# Altium integrated library Inductors.IntLib: 2 symbols
Pins are listed as number, name and electrical type; pins without a type are passive.

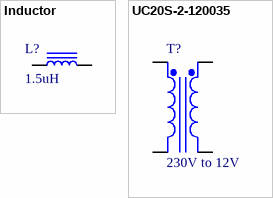
[diagram p0: symbols Inductor to UC20S-2-120035]

## Inductor
designator L?, comment 1.5uH
SMT Inductor; Value: 1.5uH
footprint CD32 (SMT inductor 3.0mm x 3.5mm x 2.1mm)
footprint BOURNS SRR1280 (Precision Wire Wound Inductor, 2-Leads, Body 12.50x12.50mm, IPC Medium Density)
pins: 1, 2

## UC20S-2-120035
designator T?, comment 230V to 12V
Transformer 220 to 12V 0.35VA; Published: 8-Jun-2000; LatestRevisionDate: 17-Jul-2002; LatestRevisionNote: Re-released for DXP Platform.; PackageReference: TRF_4; Publisher: Altium Limited; PackageDescription: Transformer; 4 Leads
simulation model TRANSFORMER (Transformer)
footprint UC20S-2-120035 (transformer)
pins: 1 Pri+, 2 Pri-, 3 Sec+, 4 Sec-